# Altium schematic symbol library TXETALSANF-26P000000.SchLib: 2 symbols
Pins are listed as number, name and electrical type; pins without a type are passive.

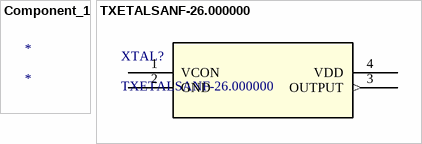
[diagram p0: symbols Component_1 to TXETALSANF-26.000000]

## Component_1
designator *

## TXETALSANF-26.000000
designator XTAL?
No Description Available; Mfr_Name: Taitien; Copyright: Copyright (C) 2023 Ultra Librarian. All rights reserved.; Manufacturer_Part_Number: TXETALSANF-26.000000; RefDes: RefDes; Type: DEV
footprint OSC_TX_TTN
pins: 1 VCON, 2 GND (power), 3 OUTPUT (out), 4 VDD (power)